# Altium footprint library Led.PcbLib: 5 footprints
Each footprint in its own frame and in the unit in brackets; x right, y up, seen from the top. Pads: shape width x height; smd on the part's side, far side on the other; paste and mask are expansions set on the pad; w line width, h text height; cw(c..) or ccw(c..) is an arc to the next point about the centre after c.
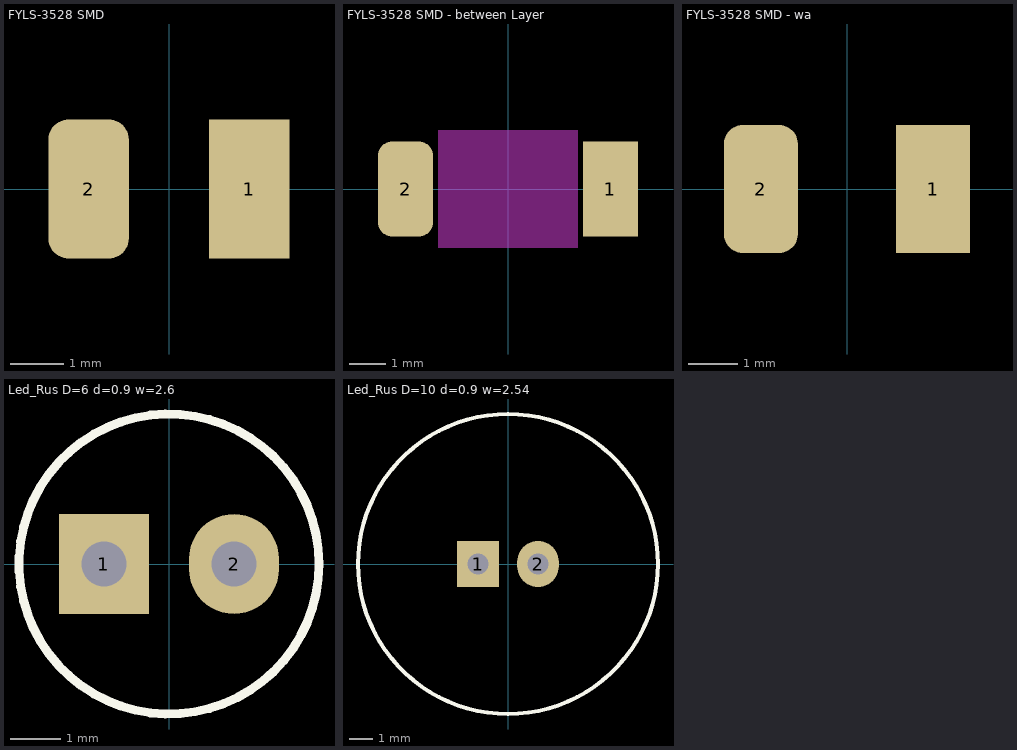
[diagram p0: the footprints below, top view; thin cyan lines are the x and y axes]

## FYLS-3528 SMD [mm] "Foryard SMD Светодиод"
pads (2):
  rect 1.5x2.6 smd: 1(1.5,0)
  rrect50% 1.5x2.6 smd: 2(-1.5,0)

## FYLS-3528 SMD - between Layer [mm] "Foryard SMD Светодиод"
pads (2):
  rect 1.5x2.6 smd: 1(2.8,0)
  rrect50% 1.5x2.6 smd: 2(-2.8,0)
Keep-Out Layer:
  board cut-out: -1.9,1.6 -1.9,-1.6 1.9,-1.6 1.9,1.6

## FYLS-3528 SMD - wa [mm] "Foryard SMD Светодиод"
pads (2):
  rect 1.5x2.6 smd: 1(1.75,0)
  rrect50% 1.5x2.6 smd: 2(-1.75,0)

## Led_Rus D=6 d=0.9 w=2.6 [mm] "Светодиод D=6 d=0.9 V=2.5V Rn=~150R"
height 8.5
pads (2):
  rect 1.8x2 hole 0.9: 1(-1.3,0)
  oval 1.8x2 hole 0.9: 2(1.3,0)
Top Overlay:
  circle w0.178: c0,0 r3

## Led_Rus D=10 d=0.9 w=2.54 [mm] "Светодиод D=10 d=0.6 V=2.5V Rn=~300-270R"
height 13
pads (2):
  rect 1.8x2 hole 0.9: 1(-1.3,0)
  oval 1.8x2 hole 0.9: 2(1.3,0)
Top Overlay:
  circle w0.178: c0,0 r6.5